# Altium schematic symbol library pol.SchLib: 1 symbol
Pins are listed as number, name and electrical type; pins without a type are passive.

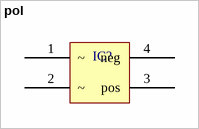
[diagram p0: symbol pol]

## pol
designator IC?, comment POL?  (value not drawn)
footprint pol
pins: 1 ~, 2 ~, 3 pos, 4 neg